# EAGLE library part 114-00841-68 (library CONNECTORs)
AMPHENOL 114-00841-68 MEMORY CARD CONNECTOR, MICROSD, 8WAY
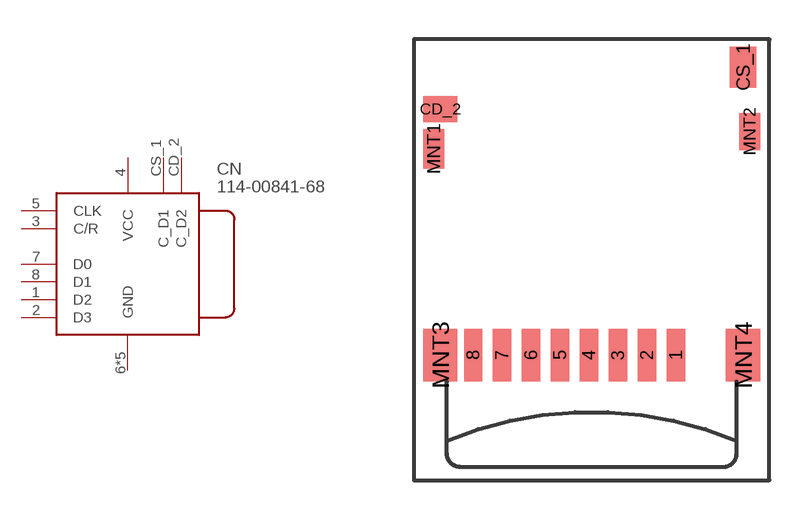
[diagram p21: symbol with the pads of 114-00841-68; footprint 114-00841-68]

Designator prefix CN

## 114-00841-68 (FARNELL: 2293708; PRICE_PER: 0.82; VALUE: uSD)  [114-00841-68]
1  D2
2  D3
3  C/R
4  VCC
5  CLK
6  GND
7  D0
8  D1
CD_2  C_D2
CS_1  C_D1
MNT1  GND
MNT2  GND
MNT3  GND
MNT4  GND

## Footprint 114-00841-68 (pad centres in mm)
smd 0.7 x 2: 1 3.2,-5.75; 2 2.1,-5.75; 3 1,-5.75; 4 -0.1,-5.75; 5 -1.2,-5.75; 6 -2.3,-5.75; 7 -3.4,-5.75; 8 -4.5,-5.75
smd 1.3 x 1: CD_2 -5.75,3.6
smd 1 x 1.55: CS_1 5.75,5.2
smd 0.8 x 1.5: MNT1 -6,2.1
smd 0.8 x 1.4: MNT2 6,2.75
smd 1.3 x 2: MNT3 -5.75,-5.75; MNT4 5.75,-5.75